# EAGLE library part LSM9DS1 (library RoboJackets-Sensors)
Accelerometer, Gyroscope, Magnetometer, Temperature, 9 Axis Sensor I²C, SPI Output
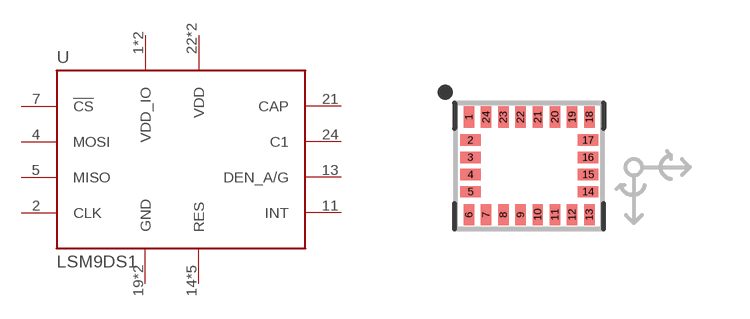
[diagram p3: symbol with the pads of LGA-24L; footprint LGA-24L]

Designator prefix U

## LSM9DS1 (DKPN: 497-14946-1-ND)  [LGA-24L]
1  VDD_IO
2  CLK
3  VDD_IO
4  MOSI
5  MISO
7  !CS!
11  INT
13  DEN_A/G
14  RES
15  RES
16  RES
17  RES
18  RES
19  GND
20  GND
21  CAP
22  VDD
23  VDD
24  C1

## Footprint LGA-24L (pad centres in mm)
smd 0.28 x 0.53: 1 -1.505,1.22; 6 -1.505,-1.22; 7 -1.075,-1.22; 8 -0.645,-1.22; 9 -0.215,-1.22; 10 0.215,-1.22; 11 0.645,-1.22; 12 1.075,-1.22; 13 1.505,-1.22; 18 1.505,1.22; 19 1.075,1.22; 20 0.645,1.22; 21 0.215,1.22; 22 -0.215,1.22; 23 -0.645,1.22; 24 -1.075,1.22
smd 0.53 x 0.28: 2 -1.47,0.645; 3 -1.47,0.215; 4 -1.47,-0.215; 5 -1.47,-0.645; 14 1.47,-0.645; 15 1.47,-0.215; 16 1.47,0.215; 17 1.47,0.645